# EAGLE library part LTC4365 (library neels)
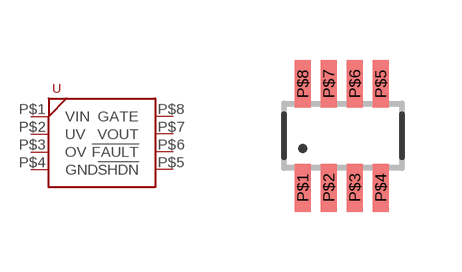
[diagram p10: symbol with the pads of SOT23-8; footprint SOT23-8]

Designator prefix -

## LTC4365  [SOT23-8]
P$1  VIN
P$2  UV
P$3  OV
P$4  GND
P$5  !SHDN
P$6  !FAULT
P$7  VOUT
P$8  GATE

## Footprint SOT23-8 (pad centres in mm)
smd 0.4 x 1.2: P$1 -0.975,-1.3; P$2 -0.325,-1.3; P$3 0.325,-1.3; P$4 0.975,-1.3; P$5 0.975,1.3; P$6 0.325,1.3; P$7 -0.325,1.3; P$8 -0.975,1.3